# EAGLE library part SNSR_TEMP_HDC1080DMBR (library !GPLIB_ACTIVE)
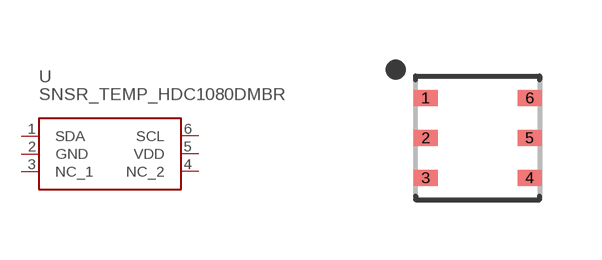
[diagram p91: symbol with the pads of HDC1080DMBR; footprint HDC1080DMBR]

Designator prefix U

## SNSR_TEMP_HDC1080DMBR  [HDC1080DMBR]
1  SDA
2  GND
3  NC_1
4  NC_2
5  VDD
6  SCL

## Footprint HDC1080DMBR (pad centres in mm)
6-SON (DFN), 1.00 mm pitch, 3.00 X 3.00 X 0.80 mm body, 2.40 X 1.50 mm thermal pad 6-pin SON (DFN) package with 1.00mm pitch, with body size 3.00 X 3.00 X 0.80 mm and thermal pad size 2.40 X 1.50 mm
smd 0.6 x 0.4: 1 -1.3,1; 2 -1.3,0; 3 -1.3,-1; 4 1.3,-1; 5 1.3,0; 6 1.3,1